# Altium schematic symbol library IC. Sensor.SchLib: 7 symbols
Pins are listed as number, name and electrical type; pins without a type are passive.

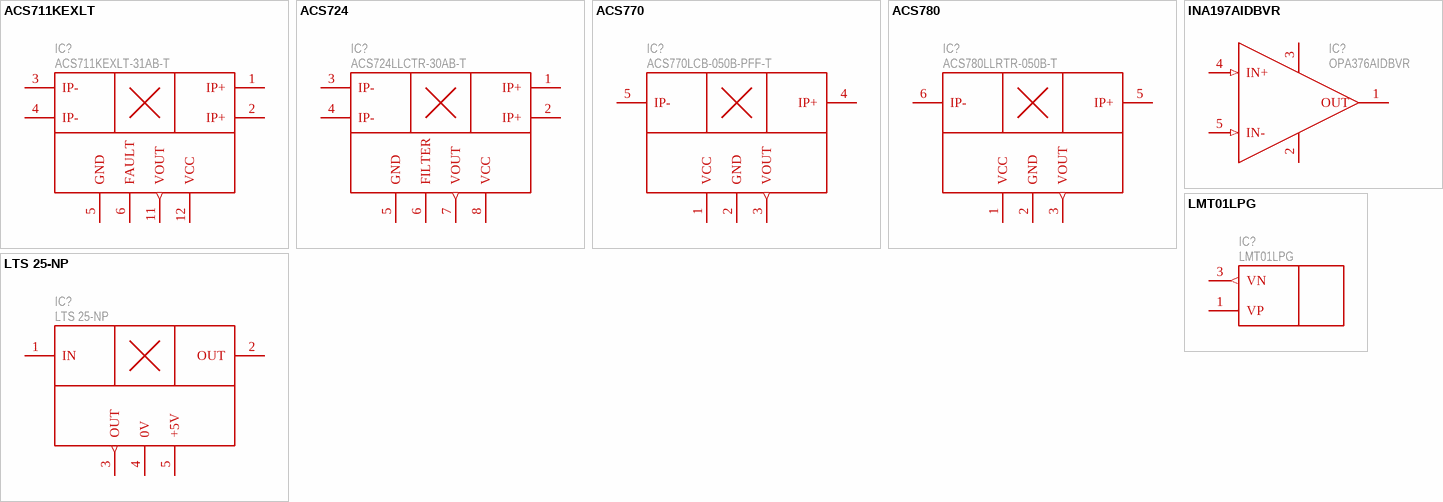
[diagram p0: symbols ACS711KEXLT to LTS 25-NP]

## ACS711KEXLT
designator IC?  PartNumber: ACS711KEXLT-31AB-T
Current sensors; Manufacturer: Allegro MicroSystems; ValueManufacturerPartNumber: IC current sensors, 31A, ±0.6%, 100 kHz, 45mV/A, -40...+125°C, 12-PowerWFQFN; Supply: 3...5.5V; Accuracy: ±0.6%; GainBandwidth: 100 kHz; Sensitivity: 45mV/A; Sensing: 31A; HelpURL: https://www.digikey.com/product-detail/en/allegro-microsystems-llc/ACS711KEXLT-31AB-T/620-1482-1-ND/3868202; Package: 12-PowerWFQFN; ComponentType: IC current sensors; Temperature: -40...+125°C
footprint SENSOR: ACS711KEXLT
pins: 1 IP+, 2 IP+, 3 IP-, 4 IP-, 5 GND, 6 FAULT, 11 VOUT (out), 12 VCC

## ACS724
designator IC?  PartNumber: ACS724LLCTR-30AB-T
Current sensors; Manufacturer: Allegro MicroSystems; ValueManufacturerPartNumber: IC current sensors, 30A, ±0.6%, 120 kHz, 66mV/A, -40...+150°C, 8-SOIC; Supply: 4.5...5.5V; Accuracy: ±0.6%; GainBandwidth: 120 kHz; Sensitivity: 66mV/A; Sensing: 30A; HelpURL: https://www.digikey.com/product-detail/en/allegro-microsystems-llc/ACS724LLCTR-30AB-T/620-1722-1-ND/5175299; Package: 8-SOIC; ComponentType: IC current sensors; Temperature: -40...+150°C
footprint 8-SOIC (pitch 1.27 mm)
pins: 1 IP+, 2 IP+, 3 IP-, 4 IP-, 5 GND, 6 FILTER, 7 VOUT (out), 8 VCC

## ACS770
designator IC?  PartNumber: ACS770LCB-050B-PFF-T
Current sensors; Manufacturer: Allegro MicroSystems; ValueManufacturerPartNumber: IC current sensors, 50A, ±0.6%, 120 kHz, 40mV/A, -40...+150°C, 5-CB Module; Supply: 5V; Accuracy: ±0.6%; GainBandwidth: 120 kHz; Sensitivity: 40mV/A; Sensing: 50A; HelpURL: https://www.digikey.com/product-detail/en/texas-instruments/INA197AIDBVR/296-38949-1-ND/5143044; Package: 5-CB Module; ComponentType: IC current sensors; Temperature: -40...+150°C
footprint SENSOR: ACS770
pins: 1 VCC, 2 GND, 3 VOUT (out), 4 IP+, 5 IP-

## ACS780
designator IC?  PartNumber: ACS780LLRTR-050B-T
Current sensors; Manufacturer: Allegro MicroSystems; ValueManufacturerPartNumber: IC current sensors, 50A, ±1.5%, 120 kHz, 40mV/A, -40...+150°C, 7-PSOF; Supply: 4.5...5.5V; Accuracy: ±1.5%; GainBandwidth: 120 kHz; Sensitivity: 40mV/A; Sensing: 50A; HelpURL: https://www.digikey.com/product-detail/en/texas-instruments/INA197AIDBVR/296-38949-1-ND/5143044; Package: 7-PSOF; ComponentType: IC current sensors; Temperature: -40...+150°C
footprint SENSOR: ACS781
pins: 1 VCC, 2 GND, 3 VOUT (out), 5 IP+, 6 IP-

## INA197AIDBVR
designator IC?  PartNumber: OPA376AIDBVR
Current monitor; Manufacturer: Texas Instruments; ValueManufacturerPartNumber: IC current monitor, ±3%, 5.5 MHz, -16...+80V, -40...+125°C, SOT23-5; Supply: -16...+80V; Accuracy: ±3%; GainBandwidth: 5.5 MHz; HelpURL: https://www.digikey.com/product-detail/en/texas-instruments/INA197AIDBVR/296-38949-1-ND/5143044; Package: SOT23-5; ComponentType: IC current monitor; Temperature: -40...+125°C
footprint SOT23-5 (pitch 0.95 mm)
pins: 1 OUT (power), 2 V- (power), 3 V+ (power), 4 IN+ (in), 5 IN- (in)

## LMT01LPG
designator IC?  PartNumber: LMT01LPG
Temperature Sensor; link: -
footprint TO-92
pins: 1 VP (power), 3 VN (out)

## LTS 25-NP
designator IC?  PartNumber: LTS 25-NP
Current sensors; Manufacturer: LEM; ValueManufacturerPartNumber: IC current sensors, 25A, ±0.2%, 200 kHz, 25mV/A, -40...+85°C; Supply: 5V; Accuracy: ±0.2%; GainBandwidth: 200 kHz; Sensitivity: 25mV/A; Sensing: 25A; HelpURL: https://www.digikey.com/product-detail/en/texas-instruments/INA197AIDBVR/296-38949-1-ND/5143044; Package: Module; ComponentType: IC current sensors; Temperature: -40...+85°C
footprint SENSOR: LTS 25-NP
pins: 1 IN, 2 OUT, 3 OUT (out), 4 0V, 5 +5V